# Altium footprint library CapacitorLibrary.PcbLib: 13 footprints
Each footprint in its own frame and in the unit in brackets; x right, y up, seen from the top. Pads: shape width x height; smd on the part's side, far side on the other; paste and mask are expansions set on the pad; w line width, h text height; cw(c..) or ccw(c..) is an arc to the next point about the centre after c.
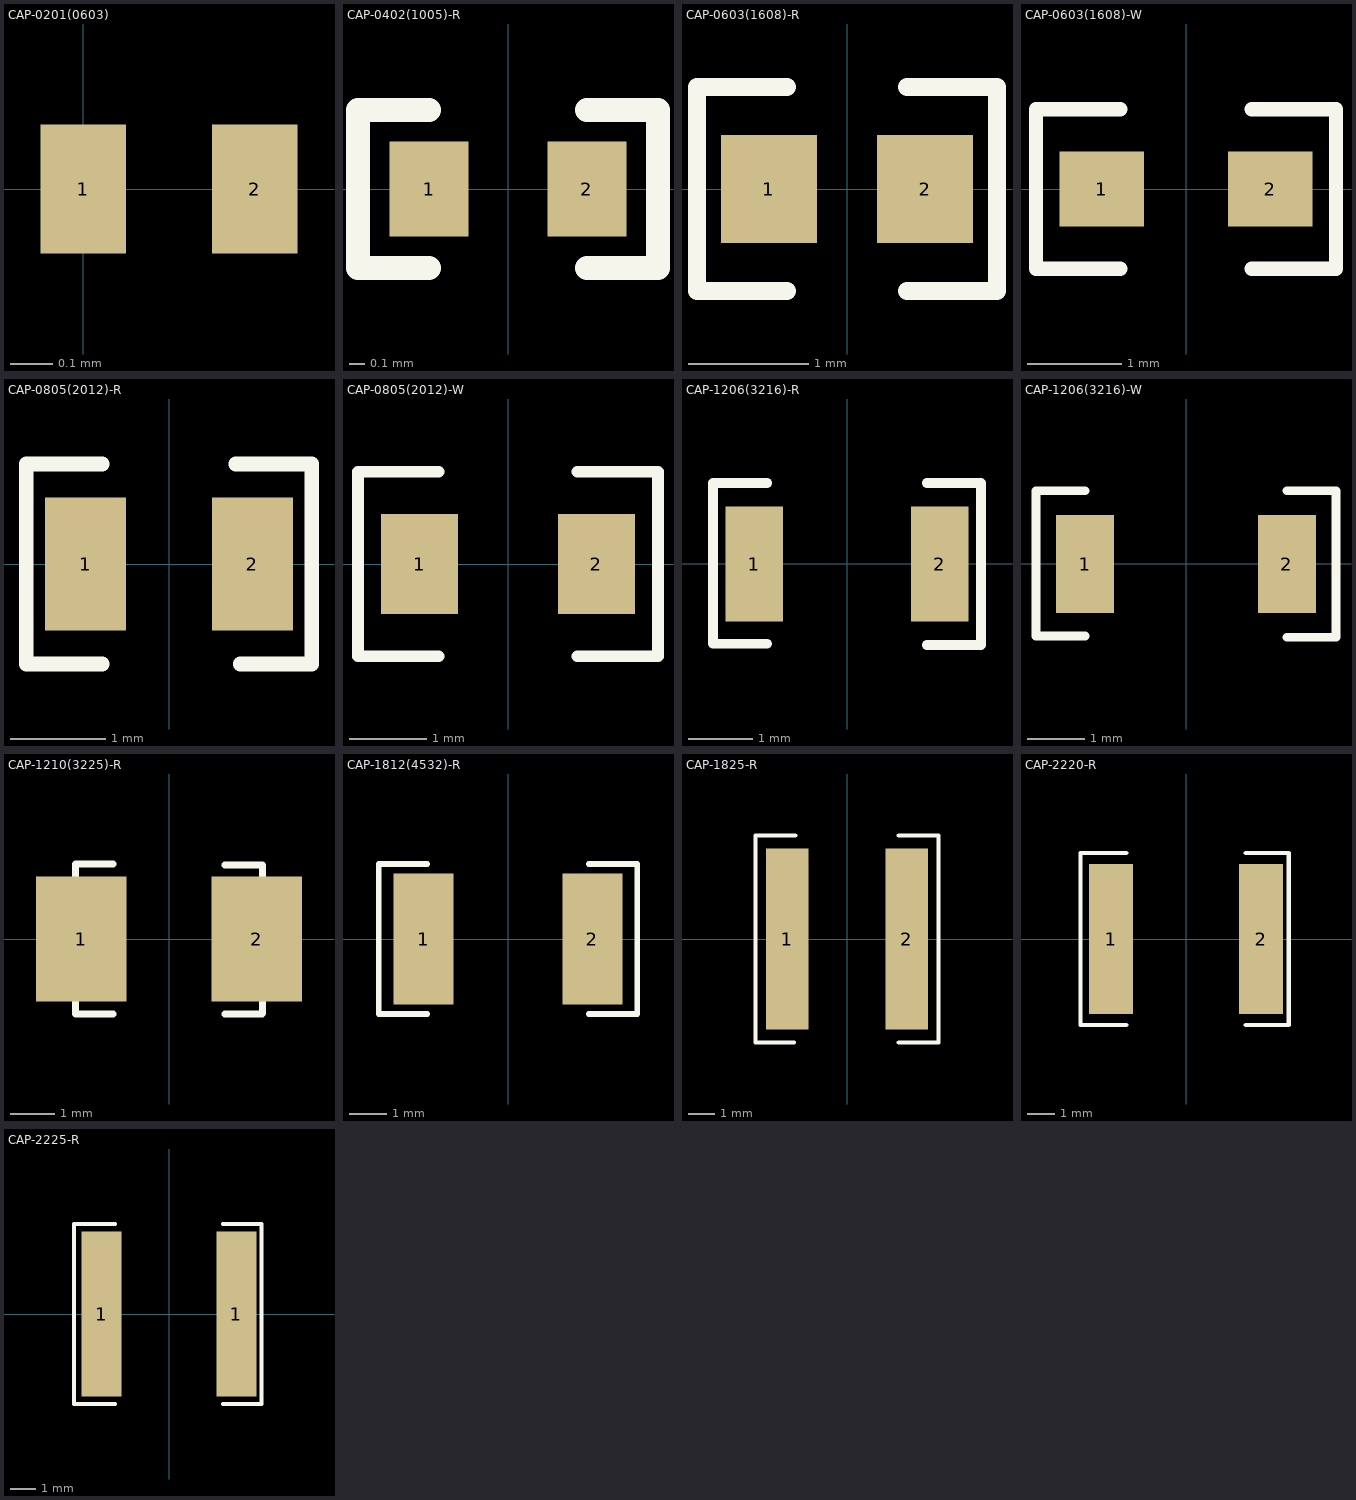
[diagram p0: the footprints below, top view; thin cyan lines are the x and y axes]

## CAP-0201(0603) [mm]
pads (2):
  rect 0.2x0.3 smd: 1(0,0) 2(0.4,0)

## CAP-0402(1005)-R [mm] "Capacitor 0402 Reflow"
pads (2):
  rect 0.5x0.6 smd: 1(-0.5,0) 2(0.5,0)
Top Overlay:
  lines w0.152: -0.5,-0.5 -0.95,-0.5 -0.95,0.5 -0.5,0.5 ; 0.5,-0.5 0.95,-0.5 0.95,0.5 0.5,0.5
3D body "CAP0402.stp": height 0.2, standoff 0, extent -0.5,-0.3 0.5,0.3

## CAP-0603(1608)-R [mm] "Capacitor 0603(1608) Reflow"
pads (2):
  rect 0.8x0.9 smd: 1(-0.65,0) 2(0.65,0)
Top Overlay:
  lines w0.152: -0.5,-0.85 -1.25,-0.85 -1.25,0.85 -0.5,0.85 ; 0.5,-0.85 1.25,-0.85 1.25,0.85 0.5,0.85
3D body "CAP0603.stp": height 0.3, standoff 0, extent -0.8,-0.4 0.8,0.4

## CAP-0603(1608)-W [mm] "Capacitor 0603(1608) Wave"
pads (2):
  rect 0.9x0.8 smd: 1(-0.9,0) 2(0.9,0)
Top Overlay:
  lines w0.152: -0.7,-0.85 -1.6,-0.85 -1.6,0.85 -0.7,0.85 ; 0.7,-0.85 1.6,-0.85 1.6,0.85 0.7,0.85
3D body "CAP0603.stp": height 0.3, standoff 0, extent -0.8,-0.4 0.8,0.4

## CAP-0805(2012)-R [mm] "Capacitor 0805(2012) Reflow"
pads (2):
  rect 0.85x1.4 smd: 1(-0.875,0) 2(0.875,0)
Top Overlay:
  lines w0.152: -0.7,-1.05 -1.5,-1.05 -1.5,1.05 -0.7,1.05 ; 0.7,1.05 1.5,1.05 1.5,-1.05 0.75,-1.05
3D body "CAP0805.stp": height 0.78, standoff 0, extent -1,-0.625 1,0.625

## CAP-0805(2012)-W [mm] "Capacitor 0805(2012) Wave"
pads (2):
  rect 1x1.3 smd: 1(-1.15,0) 2(1.15,0)
Top Overlay:
  lines w0.152: -0.9,-1.2 -1.95,-1.2 -1.95,1.2 -0.9,1.2 ; 0.9,-1.2 1.95,-1.2 1.95,1.2 0.9,1.2
3D body "CAP0805.stp": height 0.78, standoff 0, extent -1,-0.625 1,0.625

## CAP-1206(3216)-R [mm] "Capacitor 1206(3216) Reflow"
pads (2):
  rect 0.9x1.8 smd: 1(-1.45,0) 2(1.45,0)
Top Overlay:
  lines w0.152: -1.25,-1.25 -2.1,-1.25 -2.1,1.27 -1.25,1.27 ; 1.25,-1.27 2.1,-1.27 2.1,1.27 1.25,1.27
3D body "CAP1206.stp": height 1, standoff 0, extent -1.6,-0.8 1.6,0.8

## CAP-1206(3216)-W [mm] "Capacitor 1206(3216) Wave"
pads (2):
  rect 1x1.7 smd: 1(-1.75,0) 2(1.75,0)
Top Overlay:
  lines w0.152: -1.75,-1.25 -2.6,-1.25 -2.6,1.27 -1.75,1.27 ; 1.75,-1.27 2.6,-1.27 2.6,1.27 1.75,1.27
3D body "CAP1206.stp": height 1, standoff 0, extent -1.6,-0.8 1.6,0.8

## CAP-1210(3225)-R [mil] "Capacitor 1210(3225) Reflow"
pads (2):
  rect 80x110 smd: 1(-77.5,0) 2(77.5,0)
Top Overlay:
  lines w6: -49.21,-66.14 -82.68,-66.14 -82.68,66.14 -49.21,66.14 ; 49.21,-66.14 82.28,-66.14 82.68,-65.75 82.68,65.35 49.21,65.35
3D body "CAP1210.stp": height 36.22, standoff -0.79, extent -62.99,-49.21 62.99,49.21

## CAP-1812(4532)-R [mm] "Capacitor 1812(4532) Reflow"
pads (2):
  rect 1.6x3.5 smd: 1(-2.25,0) 2(2.25,0)
Top Overlay:
  lines w0.152: -2.15,-2 -3.45,-2 -3.45,2 -2.15,2 ; 2.15,-2 3.45,-2 3.45,2 2.15,2
3D body "CAP1812.stp": height 1.6, standoff 0, extent -2.25,-1.6 2.25,1.6

## CAP-1825-R [mm] "Capacitor 1825 Reflow"
pads (2):
  rect 1.6x6.8 smd: 1(-2.25,0) 2(2.25,0)
Top Overlay:
  lines w0.152: -2,-3.9 -3.45,-3.9 -3.45,3.9 -1.95,3.9 ; 1.95,-3.9 3.45,-3.9 3.45,3.9 1.95,3.9
3D body "CAP1825.stp": height 1.22, standoff -0.02, extent -2.25,-3.2 2.25,3.2

## CAP-2220-R [mm] "Capacitor 2220 Reflow"
pads (2):
  rect 1.6x5.4 smd: 1(-2.7,0) 2(2.7,0)
Top Overlay:
  lines w0.152: -2.15,-3.1 -3.8,-3.1 -3.8,3.1 -2.15,3.1 ; 2.15,-3.1 3.7,-3.1 3.7,3.1 2.15,3.1
3D body "CAP2220.stp": height 2.24, standoff -0.04, extent -2.85,-2.5 2.85,2.5

## CAP-2225-R [mm] "Capacitor 2225 R"
pads (2):
  rect 1.6x6.6 smd: 1(-2.7,0) 1(2.7,0)
Top Overlay:
  lines w0.152: -2.15,-3.6 -3.8,-3.6 -3.8,3.6 -2.15,3.6 ; 2.15,-3.6 3.7,-3.6 3.7,3.6 2.15,3.6
3D body "CAP2225.stp": height 1.44, standoff -0.04, extent -2.85,-3.175 2.87,3.175